# EAGLE library part MAINBUS (library UCI_SolarCarStandard)
solar team library - FALL 2018 Design FALL 2018 Main Bus
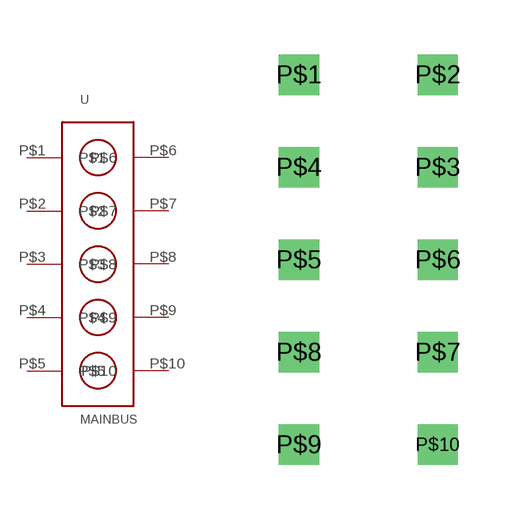
[diagram p4: symbol with the pads of MAINBUS; footprint MAINBUS]

Designator prefix -

## MAINBUS  [MAINBUS]
P$1  P$1
P$2  P$2
P$3  P$3
P$4  P$4
P$5  P$5
P$6  P$6
P$7  P$7
P$8  P$8
P$9  P$9
P$10  P$10

## Footprint MAINBUS (pad centres in mm)
drill 0.6 square: P$1 -17.78,5.08; P$2 -13.97,5.08; P$3 -13.97,2.54; P$4 -17.78,2.54; P$5 -17.78,0; P$6 -13.97,0; P$7 -13.97,-2.54; P$8 -17.78,-2.54; P$9 -17.78,-5.08; P$10 -13.97,-5.08